# EAGLE library part WIRL-POSI_2613011037000 (library WE_WIRL_Rev13.0)
Elara-I GNSS Module - GPS and GLONASS. WIRL-POSI GNSS Module - Integrated patch antenna Details see: https://we-online.de/katalog/en/article/2613011037000/
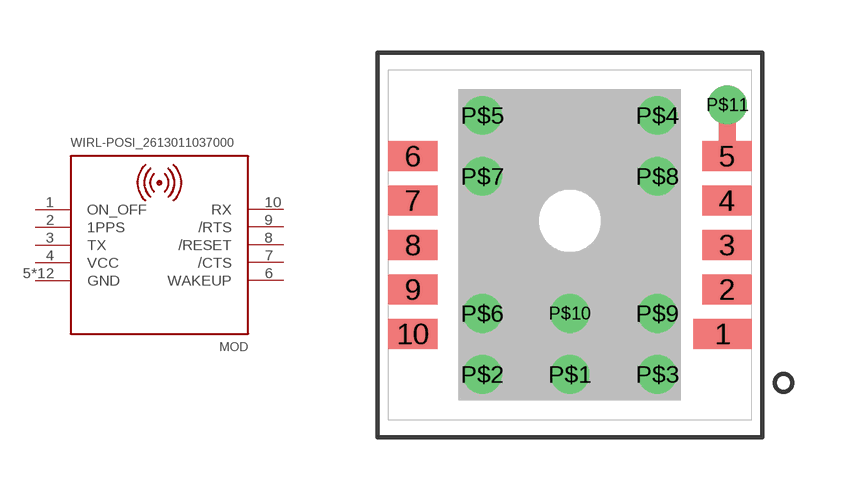
[diagram p27: symbol with the pads of WIRL-POSI_2613011037000; footprint WIRL-POSI_2613011037000]

Designator prefix MOD

## WIRL-POSI_2613011037000 (HEIGHT: 5.9mm; MANUFACTURER: Würth Elektronik; NR: 2613011037000)  [WIRL-POSI_2613011037000]
1  ON_OFF
2  1PPS
3  TX
4  VCC
5  GND
6  WAKEUP
7  /CTS
8  /RESET
9  /RTS
10  RX
P$1  GND
P$2  GND
P$3  GND
P$4  GND
P$5  GND
P$6  GND
P$7  GND
P$8  GND
P$9  GND
P$10  GND
P$11  GND

## Footprint WIRL-POSI_2613011037000 (pad centres in mm)
Elara-I GNSS Module - GPS and GLONASS. WIRL-POSI GNSS Module - Integrated patch antenna
smd 1.676 x 0.864: 1 4.362,-2.54
smd 1.422 x 0.864: 2 4.489,-1.27; 3 4.489,0; 4 4.489,1.27; 5 4.489,2.54; 6 -4.489,2.54; 7 -4.489,1.27; 8 -4.489,0; 9 -4.489,-1.27; 10 -4.489,-2.54
drill 0.6: P$1 0,-3.7; P$2 -2.5,-3.7; P$3 2.5,-3.7; P$4 2.5,3.7; P$5 -2.5,3.7; P$6 -2.5,-1.96; P$7 -2.5,1.96; P$8 2.5,1.96; P$9 2.5,-1.96; P$10 0,-1.96; P$11 4.5,4